# EAGLE library part TPS61085_DGK_8 (library DRV83x2Support)
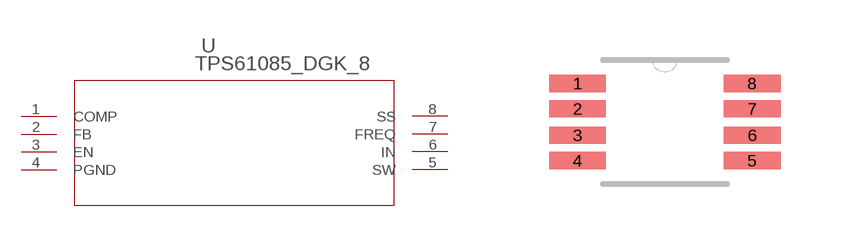
[diagram p0: symbol with the pads of DGK8; footprint DGK8]

Designator prefix U

## TPS61085_DGK_8 (DATASHEETURL: http://www.ti.com/lit/gpn/TPS61085; DESCRIPTION: 18.5V, 2A, 650kHz / 1.2MHz Step-Up DC-DC Converter w/ Forced PWM Mode; FAMILY_NAME: STEP-UP REGULATOR; GENERIC_PART_NUMBER: TPS61085; INDUSTRY_STD_PKG_TYPE: MSOP; MANUFACTURER: Texas Instruments; MANUFACTURER_PART_NUMBER: tps61085_dgk_8; PACKAGE_DESIGNATOR: DGK; PIN_COUNT: 8; VENDOR: Texas Instruments)  [DGK8]
1  COMP  pas
2  FB  in
3  EN  in
4  PGND  pwr
5  SW  pas
6  IN  in
7  FREQ  in
8  SS  pas

## Footprint DGK8 (pad centres in mm)
smd 1.422 x 0.432: 1 -2.184,0.965; 2 -2.184,0.33; 3 -2.184,-0.33; 4 -2.184,-0.965; 5 2.184,-0.965; 6 2.184,-0.33; 7 2.184,0.33; 8 2.184,0.965